# Altium schematic symbol library 5-103673-2.SchLib: 1 symbol
Pins are listed as number, name and electrical type; pins without a type are passive.

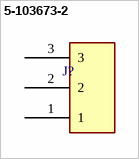
[diagram p0: symbol 5-103673-2]

## 5-103673-2
designator J?  (value not drawn)
Headers & Wire Housings LATCHING HDR SHRD 3P W/ HOLD-DN 15AU CONT; Series: 5-147278-2; Supplier 1: Newark; Supplier Part Number 1: 78X5595
footprint 5-103673-2_TYC
pins: 1, 2, 3